# Altium integrated library LM2596SX-5.0_NOPB.IntLib: 1 symbol
Pins are listed as number, name and electrical type; pins without a type are passive.

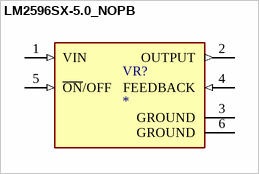
[diagram p0: symbol LM2596SX-5.0_NOPB]

## LM2596SX-5.0_NOPB
designator VR?
SIMPLE SWITCHER&reg; 4.5V to 40V, 3A Low Component Count Step-Down Regulator; MP: LM2596SX-5.0/NOPB; MF: Texas Instruments; Price: None; Value: *; Purchase-URL: https://pricing.snapeda.com/search/part/LM2596SX-5.0/NOPB/?ref=eda; Package: TO-263-5 Texas Instruments; Check_prices: https://www.snapeda.com/parts/LM2596SX-5.0/NOPB/Texas+Instruments/view-part/?ref=eda; SnapEDA_Link: https://www.snapeda.com/parts/LM2596SX-5.0/NOPB/Texas+Instruments/view-part/?ref=snap; Availability: In Stock
footprint VREG_LM2596SX-5.0_NOPB
pins: 1 VIN (in), 2 OUTPUT (out), 3 GROUND (power), 4 FEEDBACK (in), 5 ~{ON}/OFF (in), 6 GROUND (power)